# Altium footprint library Footprint_Lib.PcbLib: 5 footprints
Each footprint in its own frame and in the unit in brackets; x right, y up, seen from the top. Pads: shape width x height; smd on the part's side, far side on the other; paste and mask are expansions set on the pad; w line width, h text height; cw(c..) or ccw(c..) is an arc to the next point about the centre after c.
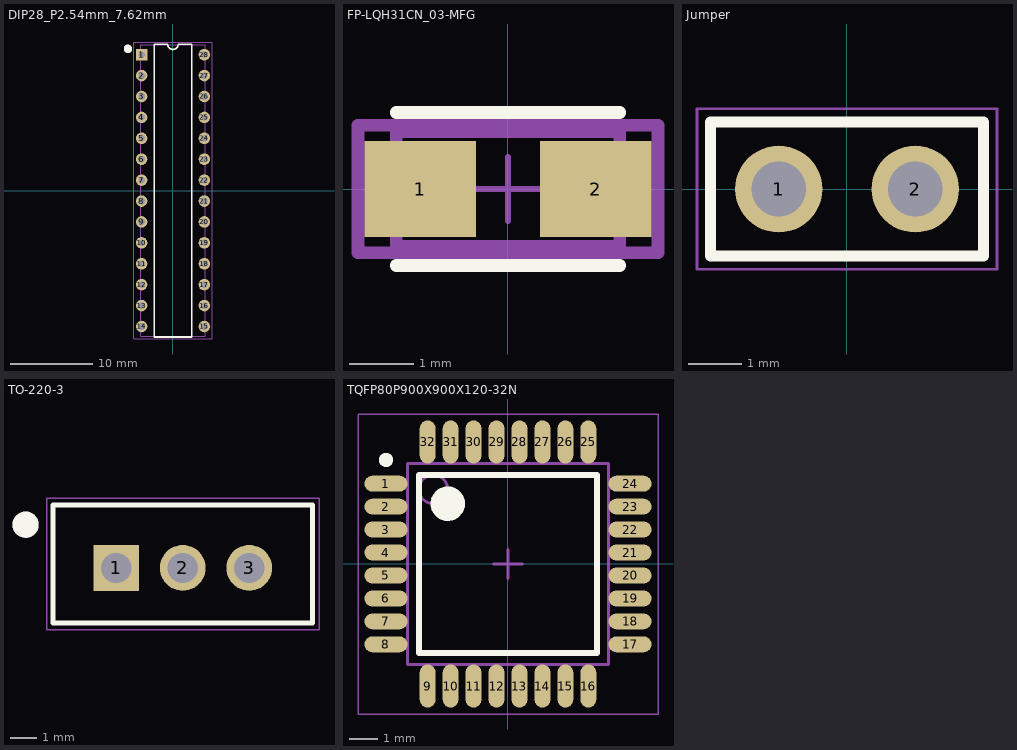
[diagram p0: the footprints below, top view; thin cyan lines are the x and y axes]

## DIP28_P2.54mm_7.62mm [mm]
pads (28):
  rect 1.4x1.4 hole 0.8: 1(-3.81,16.51)
  round 1.4 hole 0.8: 2(-3.81,13.97) 3(-3.81,11.43) 4(-3.81,8.89) 5(-3.81,6.35) 6(-3.81,3.81) 7(-3.81,1.27) 8(-3.81,-1.27) 9(-3.81,-3.81) 10(-3.81,-6.35) 11(-3.81,-8.89) 12(-3.81,-11.43) 13(-3.81,-13.97) 14(-3.81,-16.51) 15(3.81,-16.51) 16(3.81,-13.97) 17(3.81,-11.43) 18(3.81,-8.89) 19(3.81,-6.35) 20(3.81,-3.81) 21(3.81,-1.27) 22(3.81,1.27) 23(3.81,3.81) 24(3.81,6.35) 25(3.81,8.89) 26(3.81,11.43) 27(3.81,13.97) 28(3.81,16.51)
Top Overlay:
  circle w0.5: c-5.475,17.22 r0.25
  lines w0.2: -2.275,-17.78 2.275,-17.78 2.275,17.78 0.635,17.78 cw(c0,17.78) -0.635,17.78 -2.275,17.78 -2.275,-17.78
Top Designator:
  text ".Designator" at 7.023,-0.508 h1.52
Mechanical 13:
  circle w0.5: c-5.475,17.22 r0.25
  lines w0.1: -3.935,-17.7 -3.935,17.7 3.935,17.7 3.935,-17.7 -3.935,-17.7
Mechanical 15:
  lines w0.05: -4.76,-18.03 4.76,-18.03 4.76,18.03 -4.76,18.03 -4.76,-18.03
3D body "___ATmega328_DIP-28P-M04.STEP": height 5.2, standoff -3, extent -3.935,-17.7 3.935,17.7

## FP-LQH31CN_03-MFG [mm]
pads (2):
  rect 1.75x1.5 smd paste+0 mask+0: 1(-1.375,0) 2(1.375,0)
Top Overlay:
  lines w0.2: -1.75,-1.2 1.75,-1.2 ; -1.75,1.2 1.75,1.2
Top Designator:
  text ".Designator" at 7.618,-0.508 h1.52
Mechanical 13:
  lines w0.2: -1.75,-0.9 1.75,-0.9 1.75,0.9 -1.75,0.9 -1.75,-0.9
Mechanical 15:
  lines w0.1: -0.5,0 0.5,0 ; 0,-0.5 0,0.5
  lines w0.2: -2.35,-1 2.35,-1 2.35,1 -2.35,1 -2.35,-1
3D body "Ind_Murata_LQH31CN100K03K_eec.STEP": height 2, standoff 0, extent -1.6,-0.8 1.6,0.8

## Jumper [mm]
pads (2):
  round 1.62 hole 1.02: 1(-1.27,0) 2(1.27,0)
Top Overlay:
  lines w0.2: -2.54,-1.245 -2.54,1.245 2.54,1.245 2.54,-1.245 -2.54,-1.245
Top Designator:
  text ".Designator" at 7.618,-0.508 h1.52
Mechanical 13:
  lines w0.1: -2.54,-1.245 -2.54,1.245 2.54,1.245 2.54,-1.245 -2.54,-1.245
Mechanical 15:
  lines w0.05: -2.79,-1.495 2.79,-1.495 2.79,1.495 -2.79,1.495 -2.79,-1.495
3D body "1 way-Header_Male_1Pin.STEP": height 8.54, standoff -3, extent 0,-1.245 2.54,1.245
3D body "1 way-Header_Male_1Pin.STEP": height 8.54, standoff -3, extent -2.54,-1.245 0,1.245

## TO-220-3 [mm]
pads (3):
  rect 1.75x1.75 hole 1.15: 1(7.96,10.35)
  round 1.75 hole 1.15: 2(10.5,10.35) 3(13.04,10.35)
Top Overlay:
  circle w0.5: c4.5,12 r0.25
  lines w0.2: 5.55,8.25 15.45,8.25 15.45,12.75 5.55,12.75 5.55,8.25
Top Designator:
  text ".Designator" at 17.48,9.992 h1.52
Mechanical 13:
  circle w0.5: c4.5,12 r0.25
  lines w0.1: 5.55,8.25 15.45,8.25 15.45,12.75 5.55,12.75 5.55,8.25
Mechanical 15:
  lines w0.05: 5.3,8 5.3,13 15.7,13 15.7,8 5.3,8
3D body "TO-220-3.STEP": height 18.71, standoff -10.07, extent 5.55,8.25 15.45,12.75

## TQFP80P900X900X120-32N [mm] "TQFP, 32-Leads, Body 7.00x7.00mm, Pitch 0.80mm, IPC Medium Density"
height 1.2
pads (32):
  oval 1.5x0.55 smd: 1(-4.25,2.8) 2(-4.25,2) 3(-4.25,1.2) 4(-4.25,0.4) 5(-4.25,-0.4) 6(-4.25,-1.2) 7(-4.25,-2) 8(-4.25,-2.8) 17(4.25,-2.8) 18(4.25,-2) 19(4.25,-1.2) 20(4.25,-0.4) 21(4.25,0.4) 22(4.25,1.2) 23(4.25,2) 24(4.25,2.8)
  oval 0.55x1.5 smd: 9(-2.8,-4.25) 10(-2,-4.25) 11(-1.2,-4.25) 12(-0.4,-4.25) 13(0.4,-4.25) 14(1.2,-4.25) 15(2,-4.25) 16(2.8,-4.25) 25(2.8,4.25) 26(2,4.25) 27(1.2,4.25) 28(0.4,4.25) 29(-0.4,4.25) 30(-1.2,4.25) 31(-2,4.25) 32(-2.8,4.25)
Top Overlay:
  circle w0.6: c-2.1,2.1 r0.3
  circle w0.25: c-4.25,3.625 r0.125
  lines w0.2: -3.1,-3.1 3.1,-3.1 3.1,3.1 -3.1,3.1 -3.1,-3.1
Top Designator:
  text ".Designator" at 7.618,-0.508 h1.52
Mechanical 13:
  circle w0.1: c-2.6,2.6 r0.5
  lines w0.1: -3.5,-3.5 3.5,-3.5 3.5,3.5 -3.5,3.5 -3.5,-3.5
Mechanical 15:
  lines w0.05: -5.225,-5.225 5.225,-5.225 5.225,5.225 -5.225,5.225 -5.225,-5.225
  lines w0.1: -0.5,0 0.5,0 ; 0,-0.5 0,0.5
3D body "TQFP80P900X900X120-32N.step": height 1.2, standoff 0, extent -4.5,-4.5 4.5,4.5